# Altium integrated library TI Interface Display.IntLib: 133 symbols (part 10 of 16)
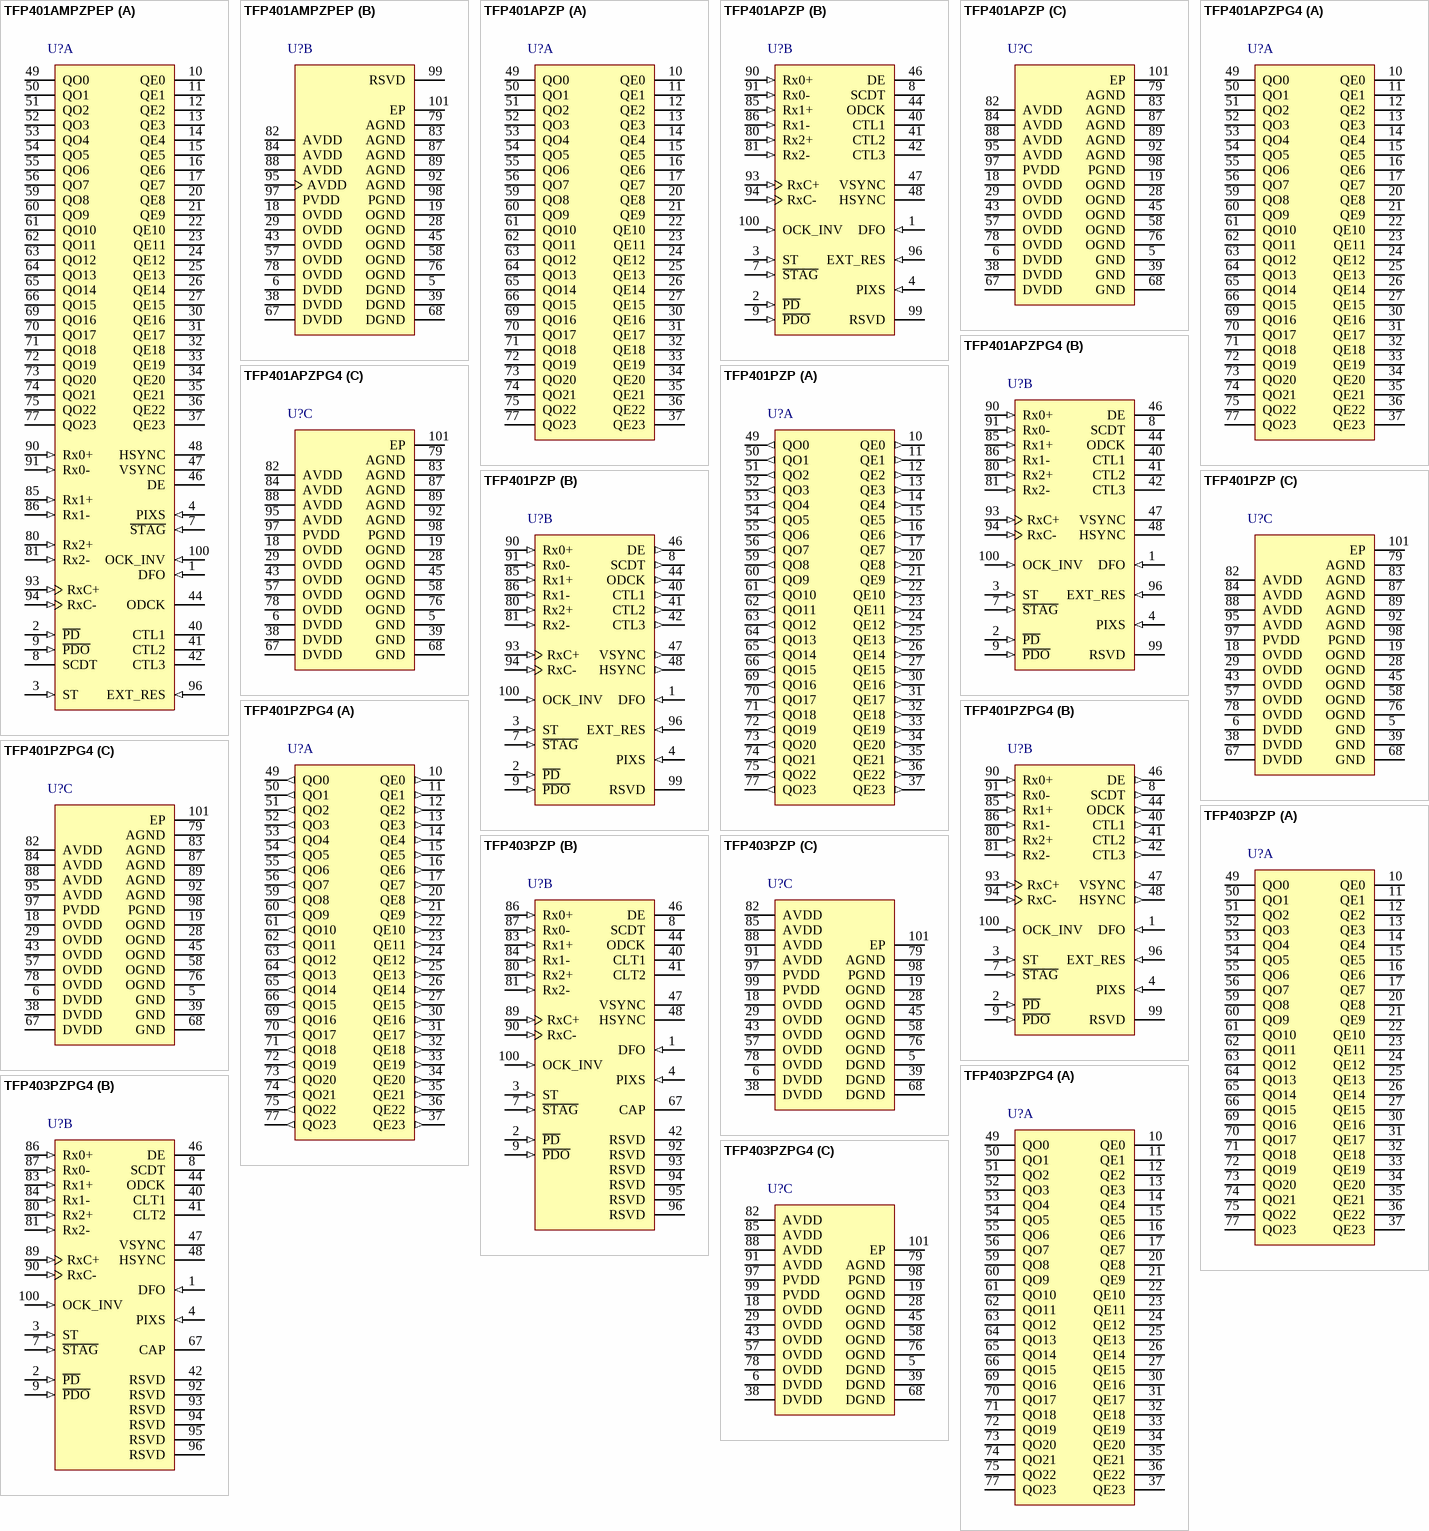
[diagram p23: symbols TFP401AMPZPEP to TFP403PZPG4]

## TFP401PZPG4
designator U?
PanelBus DVI Receiver 165MHz with 3 Data Channels, 3.3 V, 0 to +70 degC, 100-pin HTQFP (PZP), Green (RoHS & no Sb/Br); Manufacturer: Texas Instruments; PartNumber: TFP401PZPG4; Number of Parallel Outputs: 48; PLL Frequency(MHz): 25 to 165; Rating: Catalog; Receiver: TRUE; Serial Data Receiver Channels: 3; SubFamily: PanelBus (DVI); Supply Voltage(s)(V): 3.3; DatasheetVersion: SLDS120D; PackageVersion: revC, Sep-2011; PackageReference: PZP100-4700X4700TP; PackageDescription: 100-Pin Plastic Quad Flat Pack PowerPAD; Eco-Plan: Green (RoHS & no Sb/Br); Mounting Technology: Surface Mount; Code_JEDEC: MS-026; ComponentLink1Description: Datasheet; ComponentLink1URL: http://www.ti.com/general/docs/lit/getliterature.tsp?genericPartNumber=TFP401&fileType=pdf; ComponentLink2Description: URL Link1; ComponentLink2URL: SamplesURL:http://www.ti.com/product/tfp401#samples
footprint PZP100-4700X4700TP_N (Thin QFP, 100-Leads, Body 14x14mm, Pitch 0.5mm, Thermal Pad 5.2x5.2mm, IPC Medium Density)
footprint PZP100-4700X4700TP_L (Thin QFP, 100-Leads, Body 14x14mm, Pitch 0.5mm, Thermal Pad 5.2x5.2mm, IPC High Density)
footprint PZP100-4700X4700TP_M (Thin QFP, 100-Leads, Body 14x14mm, Pitch 0.5mm, Thermal Pad 5.2x5.2mm, IPC Low Density)
part A pins: 10 QE0 (out) "Even blue-pixel output - Output for even and odd blue pixels when in 1-pixel/clock mode.Output for even-only blue pixel when in 2-pixel per clock mode. Output data is synchronized to the output data clock, ODCK.LSB: QE0/pin (See Datasheet)", 11 QE1 (out) "Even blue-pixel output - Output for even and odd blue pixels when in 1-pixel/clock mode.Output for even-only blue pixel when in 2-pixel per clock mode. Output data is synchronized to the output data clock, ODCK.LSB: QE0/pin (See Datasheet)", 12 QE2 (out) "Even blue-pixel output - Output for even and odd blue pixels when in 1-pixel/clock mode.Output for even-only blue pixel when in 2-pixel per clock mode. Output data is synchronized to the output data clock, ODCK.LSB: QE0/pin (See Datasheet)", 13 QE3 (out) "Even blue-pixel output - Output for even and odd blue pixels when in 1-pixel/clock mode.Output for even-only blue pixel when in 2-pixel per clock mode. Output data is synchronized to the output data clock, ODCK.LSB: QE0/pin (See Datasheet)", 14 QE4 (out) "Even blue-pixel output - Output for even and odd blue pixels when in 1-pixel/clock mode.Output for even-only blue pixel when in 2-pixel per clock mode. Output data is synchronized to the output data clock, ODCK.LSB: QE0/pin (See Datasheet)", 15 QE5 (out) "Even blue-pixel output - Output for even and odd blue pixels when in 1-pixel/clock mode.Output for even-only blue pixel when in 2-pixel per clock mode. Output data is synchronized to the output data clock, ODCK.LSB: QE0/pin (See Datasheet)", 16 QE6 (out) "Even blue-pixel output - Output for even and odd blue pixels when in 1-pixel/clock mode.Output for even-only blue pixel when in 2-pixel per clock mode. Output data is synchronized to the output data clock, ODCK.LSB: QE0/pin (See Datasheet)", 17 QE7 (out) "Even blue-pixel output - Output for even and odd blue pixels when in 1-pixel/clock mode.Output for even-only blue pixel when in 2-pixel per clock mode. Output data is synchronized to the output data clock, ODCK.LSB: QE0/pin (See Datasheet)", 20 QE8 (out) "Even green-pixel output - Output for even and odd green pixels when in 1-pixel/clock mode.Output for even-only green pixel when in 2-pixel/clock mode. Output data is synchronized to the output data clock, ODCK.LSB: QE8/pin (See Datasheet)", 21 QE9 (out) "Even green-pixel output - Output for even and odd green pixels when in 1-pixel/clock mode.Output for even-only green pixel when in 2-pixel/clock mode. Output data is synchronized to the output data clock, ODCK.LSB: QE8/pin (See Datasheet)", 22 QE10 (out) "Even green-pixel output - Output for even and odd green pixels when in 1-pixel/clock mode.Output for even-only green pixel when in 2-pixel/clock mode. Output data is synchronized to the output data clock, ODCK.LSB: QE8/pin (See Datasheet)", 23 QE11 (out) "Even green-pixel output - Output for even and odd green pixels when in 1-pixel/clock mode.Output for even-only green pixel when in 2-pixel/clock mode. Output data is synchronized to the output data clock, ODCK.LSB: QE8/pin (See Datasheet)", 24 QE12 (out) "Even green-pixel output - Output for even and odd green pixels when in 1-pixel/clock mode.Output for even-only green pixel when in 2-pixel/clock mode. Output data is synchronized to the output data clock, ODCK.LSB: QE8/pin (See Datasheet)", 25 QE13 (out) "Even green-pixel output - Output for even and odd green pixels when in 1-pixel/clock mode.Output for even-only green pixel when in 2-pixel/clock mode. Output data is synchronized to the output data clock, ODCK.LSB: QE8/pin (See Datasheet)", 26 QE14 (out) "Even green-pixel output - Output for even and odd green pixels when in 1-pixel/clock mode.Output for even-only green pixel when in 2-pixel/clock mode. Output data is synchronized to the output data clock, ODCK.LSB: QE8/pin (See Datasheet)", 27 QE15 (out) "Even green-pixel output - Output for even and odd green pixels when in 1-pixel/clock mode.Output for even-only green pixel when in 2-pixel/clock mode. Output data is synchronized to the output data clock, ODCK.LSB: QE8/pin (See Datasheet)", 30 QE16 (out) "Even red-pixel output - Output for even and odd red pixels when in 1-pixel/clock mode.Output for even-only red pixel when in 2-pixel/clock mode. Output data is synchronized to the output data clock, ODCK.LSB: QE16/pin 30 (See Datasheet)", 31 QE17 (out) "Even red-pixel output - Output for even and odd red pixels when in 1-pixel/clock mode.Output for even-only red pixel when in 2-pixel/clock mode. Output data is synchronized to the output data clock, ODCK.LSB: QE16/pin 30 (See Datasheet)", 32 QE18 (out) "Even red-pixel output - Output for even and odd red pixels when in 1-pixel/clock mode.Output for even-only red pixel when in 2-pixel/clock mode. Output data is synchronized to the output data clock, ODCK.LSB: QE16/pin 30 (See Datasheet)", 33 QE19 (out) "Even red-pixel output - Output for even and odd red pixels when in 1-pixel/clock mode.Output for even-only red pixel when in 2-pixel/clock mode. Output data is synchronized to the output data clock, ODCK.LSB: QE16/pin 30 (See Datasheet)", 34 QE20 (out) "Even red-pixel output - Output for even and odd red pixels when in 1-pixel/clock mode.Output for even-only red pixel when in 2-pixel/clock mode. Output data is synchronized to the output data clock, ODCK.LSB: QE16/pin 30 (See Datasheet)", 35 QE21 (out) "Even red-pixel output - Output for even and odd red pixels when in 1-pixel/clock mode.Output for even-only red pixel when in 2-pixel/clock mode. Output data is synchronized to the output data clock, ODCK.LSB: QE16/pin 30 (See Datasheet)", 36 QE22 (out) "Even red-pixel output - Output for even and odd red pixels when in 1-pixel/clock mode.Output for even-only red pixel when in 2-pixel/clock mode. Output data is synchronized to the output data clock, ODCK.LSB: QE16/pin 30 (See Datasheet)", 37 QE23 (out) "Even red-pixel output - Output for even and odd red pixels when in 1-pixel/clock mode.Output for even-only red pixel when in 2-pixel/clock mode. Output data is synchronized to the output data clock, ODCK.LSB: QE16/pin 30 (See Datasheet)", 49 QO0 (out) "Odd blue-pixel output - Output for odd-only blue pixel when in 2-pixel/clock mode. Not used,and held low, when in 1-pixel/clock mode. Output data is synchronized to the output data clock, ODCK.LSB: QO0/pin 49 MSB: QO7/pin 56", 50 QO1 (out) "Odd blue-pixel output - Output for odd-only blue pixel when in 2-pixel/clock mode. Not used,and held low, when in 1-pixel/clock mode. Output data is synchronized to the output data clock, ODCK.LSB: QO0/pin 49 MSB: QO7/pin 56", 51 QO2 (out) "Odd blue-pixel output - Output for odd-only blue pixel when in 2-pixel/clock mode. Not used,and held low, when in 1-pixel/clock mode. Output data is synchronized to the output data clock, ODCK.LSB: QO0/pin 49 MSB: QO7/pin 56", 52 QO3 (out) "Odd blue-pixel output - Output for odd-only blue pixel when in 2-pixel/clock mode. Not used,and held low, when in 1-pixel/clock mode. Output data is synchronized to the output data clock, ODCK.LSB: QO0/pin 49 MSB: QO7/pin 56", 53 QO4 (out) "Odd blue-pixel output - Output for odd-only blue pixel when in 2-pixel/clock mode. Not used,and held low, when in 1-pixel/clock mode. Output data is synchronized to the output data clock, ODCK.LSB: QO0/pin 49 MSB: QO7/pin 56", 54 QO5 (out) "Odd blue-pixel output - Output for odd-only blue pixel when in 2-pixel/clock mode. Not used,and held low, when in 1-pixel/clock mode. Output data is synchronized to the output data clock, ODCK.LSB: QO0/pin 49 MSB: QO7/pin 56", 55 QO6 (out) "Odd blue-pixel output - Output for odd-only blue pixel when in 2-pixel/clock mode. Not used,and held low, when in 1-pixel/clock mode. Output data is synchronized to the output data clock, ODCK.LSB: QO0/pin 49 MSB: QO7/pin 56", 56 QO7 (out) "Odd blue-pixel output - Output for odd-only blue pixel when in 2-pixel/clock mode. Not used,and held low, when in 1-pixel/clock mode. Output data is synchronized to the output data clock, ODCK.LSB: QO0/pin 49 MSB: QO7/pin 56", 59 QO8 (out) "Odd green-pixel output - Output for odd-only green pixel when in 2-pixel/clock mode. Not used, and held low, when in 1-pixel/clock mode. Output data is synchronized to the output data clock, ODCK.LSB: QO8/pin 59 MSB: (See Datasheet)", 60 QO9 (out) "Odd green-pixel output - Output for odd-only green pixel when in 2-pixel/clock mode. Not used, and held low, when in 1-pixel/clock mode. Output data is synchronized to the output data clock, ODCK.LSB: QO8/pin 59 MSB: (See Datasheet)", 61 QO10 (out) "Odd green-pixel output - Output for odd-only green pixel when in 2-pixel/clock mode. Not used, and held low, when in 1-pixel/clock mode. Output data is synchronized to the output data clock, ODCK.LSB: QO8/pin 59 MSB: (See Datasheet)", 62 QO11 (out) "Odd green-pixel output - Output for odd-only green pixel when in 2-pixel/clock mode. Not used, and held low, when in 1-pixel/clock mode. Output data is synchronized to the output data clock, ODCK.LSB: QO8/pin 59 MSB: (See Datasheet)", 63 QO12 (out) "Odd green-pixel output - Output for odd-only green pixel when in 2-pixel/clock mode. Not used, and held low, when in 1-pixel/clock mode. Output data is synchronized to the output data clock, ODCK.LSB: QO8/pin 59 MSB: (See Datasheet)", 64 QO13 (out) "Odd green-pixel output - Output for odd-only green pixel when in 2-pixel/clock mode. Not used, and held low, when in 1-pixel/clock mode. Output data is synchronized to the output data clock, ODCK.LSB: QO8/pin 59 MSB: (See Datasheet)", 65 QO14 (out) "Odd green-pixel output - Output for odd-only green pixel when in 2-pixel/clock mode. Not used, and held low, when in 1-pixel/clock mode. Output data is synchronized to the output data clock, ODCK.LSB: QO8/pin 59 MSB: (See Datasheet)", 66 QO15 (out) "Odd green-pixel output - Output for odd-only green pixel when in 2-pixel/clock mode. Not used, and held low, when in 1-pixel/clock mode. Output data is synchronized to the output data clock, ODCK.LSB: QO8/pin 59 MSB: (See Datasheet)", 69 QO16 (out) "Odd red-pixel output - Output for odd-only red pixel when in 2-pixel/clock mode. Not used,and held low, when in 1-pixel/clock mode. Output data is synchronized to the output data clock, ODCK.LSB: QO16/pin 69 MSB: QO23/pin 77", 70 QO17 (out) "Odd red-pixel output - Output for odd-only red pixel when in 2-pixel/clock mode. Not used,and held low, when in 1-pixel/clock mode. Output data is synchronized to the output data clock, ODCK.LSB: QO16/pin 69 MSB: QO23/pin 77", 71 QO18 (out) "Odd red-pixel output - Output for odd-only red pixel when in 2-pixel/clock mode. Not used,and held low, when in 1-pixel/clock mode. Output data is synchronized to the output data clock, ODCK.LSB: QO16/pin 69 MSB: QO23/pin 77", 72 QO19 (out) "Odd red-pixel output - Output for odd-only red pixel when in 2-pixel/clock mode. Not used,and held low, when in 1-pixel/clock mode. Output data is synchronized to the output data clock, ODCK.LSB: QO16/pin 69 MSB: QO23/pin 77", 73 QO20 (out) "Odd red-pixel output - Output for odd-only red pixel when in 2-pixel/clock mode. Not used,and held low, when in 1-pixel/clock mode. Output data is synchronized to the output data clock, ODCK.LSB: QO16/pin 69 MSB: QO23/pin 77", 74 QO21 (out) "Odd red-pixel output - Output for odd-only red pixel when in 2-pixel/clock mode. Not used,and held low, when in 1-pixel/clock mode. Output data is synchronized to the output data clock, ODCK.LSB: QO16/pin 69 MSB: QO23/pin 77", 75 QO22 (out) "Odd red-pixel output - Output for odd-only red pixel when in 2-pixel/clock mode. Not used,and held low, when in 1-pixel/clock mode. Output data is synchronized to the output data clock, ODCK.LSB: QO16/pin 69 MSB: QO23/pin 77", 77 QO23 (out) "Odd red-pixel output - Output for odd-only red pixel when in 2-pixel/clock mode. Not used,and held low, when in 1-pixel/clock mode. Output data is synchronized to the output data clock, ODCK.LSB: QO16/pin 69 MSB: QO23/pin 77"
part B pins: 1 DFO (in) "Output clock data format - Controls the output clock (ODCK) format for either TFT or DSTN panel support. For TFT support, the ODCK clock runs continuously. For DSTN support, ODCK only clocks when DE is high; otherwise, ODCK (See Datasheet)", 2 ~{PD} (in) "Power down - An active-low signal that controls the TFP401/401A power-down state. During power down, all output buffers are switched to a high-impedance state. [see datasheet]", 3 ST (in) "Output drive strength select - Selects output drive strength for high- or low-current drive.[see datasheet]", 4 PIXS (in) "Pixel select - Selects between one- and two-pixels-per-clock output modes.During the 2-pixel/clock mode, both even pixels, QE[23:0], and odd pixels, QO[23:0], are output in tandem on a given clock cycle.[see datasheet]", 7 ~{STAG} (in) "Staggered pixel select - An active-low signal used in the 2-pixel/clock pixel mode (PIXS = high). Time-staggers the even and odd pixel outputs to reduce ground bounce. Normal operation outputs the odd and even pixels (See Datasheet)", 8 SCDT (out) "Sync detect - Output to signal when the link is active or inactive. The link is considered to be active when DE is actively switching. [see datasheet]", 9 ~{PDO} (in) "Output drive power down - An active-low signal that controls the power-down state of the output drivers.[see datasheet]", 40 CTL1 (out) "General-purpose control signals - Used for user-defined control. CTL1 is not powered down via P\D\O\", 41 CTL2 (out) "General-purpose control signals - Used for user-defined control. CTL1 is not powered down via P\D\O\", 42 CTL3 (out) "General-purpose control signals - Used for user-defined control. CTL1 is not powered down via P\D\O\", 44 ODCK (out) "Output data clock-Pixel clock.All pixel outputs QE[23:0] and QO[23:0] (if in 2-pixel/clock mode),along with DE,HSYNC,VSYNC and CTL[3:1],are synchronized to this clock.", 46 DE (out) "Output data enable - Used to indicate time of active video display versus non-active display or blank time. During blank, only HSYNC, VSYNC, and CTL[3:1] are transmitted. During times of active display, or non-blank, only (See Datasheet)", 47 VSYNC (out) "Vertical sync output", 48 HSYNC (out) "Horizontal sync output", 80 Rx2+ (in) "Channel-2 positive receiver input - Positive side of channel-2 TMDS low-voltage signal differential input pair Channel-2 receives red-pixel data in active display and CTL2, CTL3 control signals in blank.", 81 Rx2- (in) "Channel-2 negative receiver input - Negative side of channel-2 TMDS low-voltage signal differential input pair", 85 Rx1+ (in) "Channel-1 positive receiver input - Positive side of channel-1 TMDS low-voltage signal differential input pair Channel-1 receives green-pixel data in active display and CTL1 control signals in blank.", 86 Rx1- (in) "Channel-1 negative receiver input - Negative side of channel-1 TMDS low-voltage signal differential input pair", 90 Rx0+ (in) "Channel-0 positive receiver input - Positive side of channel-0. TMDS low-voltage signal differential input pair.Channel-0 receives bule pixel data in active display and HSYNC, VSYNC control signals in blank.", 91 Rx0- (in) "Channel-0 negative receiver input - Negative side of channel-0 TMDS low-voltage signal differential input pair", 93 RxC+ (in) "Clock positive receiver input - Positive side of reference clock. TMDS low-voltage signal differential input pair.", 94 RxC- (in) "Clock negative receiver input - Negative side of reference clock. TMDS low-voltage signal differential input pair.", 96 EXT_RES (in) "Internal impedance matching -The TFP401/401A is internally optimized for impedance matching at 50ohm. An external resistor tied to this pin has no effect on device performance.", 99 RSVD "Reserved. Must be tied high for normal operation", 100 OCK_INV (in) "ODCK polarity - Selects ODCK edge on which pixel data (QE[23:0] and QO[23:0]) and control signals (HSYNC, VSYNC, DE, CTL[3:1]) are latched.Normal mode:High: Latches output data on rising ODCK edge Low: Latches output data on (See Datasheet)"
part C pins: 5 GND (power) "Digital ground - Ground reference and current return for digital core", 6 DVDD (power) "Digital VDD - Power supply for digital core. Nominally 3.3 V", 18 OVDD (power) "Output driver VDD - Power supply for output drivers. Nominally 3.3 V", 19 OGND (power) "Output driver ground - Ground reference and current return for digital output drivers", 28 OGND (power) "Output driver ground - Ground reference and current return for digital output drivers", 29 OVDD (power) "Output driver VDD - Power supply for output drivers. Nominally 3.3 V", 38 DVDD (power) "Digital VDD - Power supply for digital core. Nominally 3.3 V", 39 GND (power) "Digital ground - Ground reference and current return for digital core", 43 OVDD (power) "Output driver VDD - Power supply for output drivers. Nominally 3.3 V", 45 OGND (power) "Output driver ground - Ground reference and current return for digital output drivers", 57 OVDD (power) "Output driver VDD - Power supply for output drivers. Nominally 3.3 V", 58 OGND (power) "Output driver ground - Ground reference and current return for digital output drivers", 67 DVDD (power) "Digital VDD - Power supply for digital core. Nominally 3.3 V", 68 GND (power) "Digital ground - Ground reference and current return for digital core", 76 OGND (power) "Output driver ground - Ground reference and current return for digital output drivers", 78 OVDD (power) "Output driver VDD - Power supply for output drivers. Nominally 3.3 V", 79 AGND (power) "Analog ground - Ground reference and current return for analog circuitry", 82 AVDD (power) "Analog VDD - Power supply for analog circuitry. Nominally 3.3 V", 83 AGND (power) "Analog ground - Ground reference and current return for analog circuitry", 84 AVDD (power) "Analog VDD - Power supply for analog circuitry. Nominally 3.3 V", 87 AGND (power) "Analog ground - Ground reference and current return for analog circuitry", 88 AVDD (power) "Analog VDD - Power supply for analog circuitry. Nominally 3.3 V", 89 AGND (power) "Analog ground - Ground reference and current return for analog circuitry", 92 AGND (power) "Analog ground - Ground reference and current return for analog circuitry", 95 AVDD (power) "Analog VDD - Power supply for analog circuitry. Nominally 3.3 V", 97 PVDD (power) "PLL VDD - Power supply for internal PLL", 98 PGND (power) "PLL GND - Ground reference and current return for internal PLL", 101 EP (power) "Exposed  Pad"

## TFP403PZP
designator U?
PanelBus DVI Receiver with 3 Data Channels, 3.3 V, 0 to +70 degC, 100-pin HTQFP (PZP), Green (RoHS & no Sb/Br); Manufacturer: Texas Instruments; PartNumber: TFP403PZP; Number of Parallel Outputs: 48; PLL Frequency(MHz): 25 to 165; Rating: Catalog; Receiver: TRUE; Serial Data Receiver Channels: 3; SubFamily: PanelBus (DVI); Supply Voltage(s)(V): 3.3; DatasheetVersion: SLDS125B; PackageVersion: revC, Sep-2011; PackageReference: PZP100-4700X4700TP; PackageDescription: 100-Pin Plastic Quad Flat Pack PowerPAD; Eco-Plan: Green (RoHS & no Sb/Br); Mounting Technology: Surface Mount; Code_JEDEC: MS-026; ComponentLink1Description: Datasheet; ComponentLink1URL: http://www.ti.com/general/docs/lit/getliterature.tsp?genericPartNumber=TFP403&fileType=pdf; ComponentLink2Description: URL Link1; ComponentLink2URL: SamplesURL:http://www.ti.com/product/tfp403#samples
footprint PZP100-4700X4700TP_N (Thin QFP, 100-Leads, Body 14x14mm, Pitch 0.5mm, Thermal Pad 5.2x5.2mm, IPC Medium Density)
footprint PZP100-4700X4700TP_L (Thin QFP, 100-Leads, Body 14x14mm, Pitch 0.5mm, Thermal Pad 5.2x5.2mm, IPC High Density)
footprint PZP100-4700X4700TP_M (Thin QFP, 100-Leads, Body 14x14mm, Pitch 0.5mm, Thermal Pad 5.2x5.2mm, IPC Low Density)
part A pins: 10 QE0 (hiz) "Even blue pixel output--Output for even and odd blue pixels when in 1-pixel/clock mode. Output for even only blue pixel when in 2-pixel per clock mode. Output data is synchronized to the output data clock, ODCK.[see (See Datasheet)", 11 QE1 (hiz) "Even blue pixel output--Output for even and odd blue pixels when in 1-pixel/clock mode. Output for even only blue pixel when in 2-pixel per clock mode. Output data is synchronized to the output data clock, ODCK.[see (See Datasheet)", 12 QE2 (hiz) "Even blue pixel output--Output for even and odd blue pixels when in 1-pixel/clock mode. Output for even only blue pixel when in 2-pixel per clock mode. Output data is synchronized to the output data clock, ODCK.[see (See Datasheet)", 13 QE3 (hiz) "Even blue pixel output--Output for even and odd blue pixels when in 1-pixel/clock mode. Output for even only blue pixel when in 2-pixel per clock mode. Output data is synchronized to the output data clock, ODCK.[see (See Datasheet)", 14 QE4 (hiz) "Even blue pixel output--Output for even and odd blue pixels when in 1-pixel/clock mode. Output for even only blue pixel when in 2-pixel per clock mode. Output data is synchronized to the output data clock, ODCK.[see (See Datasheet)", 15 QE5 (hiz) "Even blue pixel output--Output for even and odd blue pixels when in 1-pixel/clock mode. Output for even only blue pixel when in 2-pixel per clock mode. Output data is synchronized to the output data clock, ODCK.[see (See Datasheet)", 16 QE6 (hiz) "Even blue pixel output--Output for even and odd blue pixels when in 1-pixel/clock mode. Output for even only blue pixel when in 2-pixel per clock mode. Output data is synchronized to the output data clock, ODCK.[see (See Datasheet)", 17 QE7 (hiz) "Even blue pixel output--Output for even and odd blue pixels when in 1-pixel/clock mode. Output for even only blue pixel when in 2-pixel per clock mode. Output data is synchronized to the output data clock, ODCK.[see (See Datasheet)", 20 QE8 (hiz) "Even green pixel output--Output for even and odd green pixels when in 1-pixel/clock mode. Output for even only green pixel when in 2-pixel/clock mode. Output data is synchronized to the output data clock, ODCK.[see datasheet]", 21 QE9 (hiz) "Even green pixel output--Output for even and odd green pixels when in 1-pixel/clock mode. Output for even only green pixel when in 2-pixel/clock mode. Output data is synchronized to the output data clock, ODCK.[see datasheet]", 22 QE10 (hiz) "Even green pixel output--Output for even and odd green pixels when in 1-pixel/clock mode. Output for even only green pixel when in 2-pixel/clock mode. Output data is synchronized to the output data clock, ODCK.[see datasheet]", 23 QE11 (hiz) "Even green pixel output--Output for even and odd green pixels when in 1-pixel/clock mode. Output for even only green pixel when in 2-pixel/clock mode. Output data is synchronized to the output data clock, ODCK.[see datasheet]", 24 QE12 (hiz) "Even green pixel output--Output for even and odd green pixels when in 1-pixel/clock mode. Output for even only green pixel when in 2-pixel/clock mode. Output data is synchronized to the output data clock, ODCK.[see datasheet]", 25 QE13 (hiz) "Even green pixel output--Output for even and odd green pixels when in 1-pixel/clock mode. Output for even only green pixel when in 2-pixel/clock mode. Output data is synchronized to the output data clock, ODCK.[see datasheet]", 26 QE14 (hiz) "Even green pixel output--Output for even and odd green pixels when in 1-pixel/clock mode. Output for even only green pixel when in 2-pixel/clock mode. Output data is synchronized to the output data clock, ODCK.[see datasheet]", 27 QE15 (hiz) "Even green pixel output--Output for even and odd green pixels when in 1-pixel/clock mode. Output for even only green pixel when in 2-pixel/clock mode. Output data is synchronized to the output data clock, ODCK.[see datasheet]", 30 QE16 (hiz) "Even red pixel output--Output for even and odd red pixels when in 1-pixel/clock mode. Output for even only red pixel when in 2-pixel/clock mode. Output data is synchronized to the output data clock, ODCK.[see datasheet]", 31 QE17 (hiz) "Even red pixel output--Output for even and odd red pixels when in 1-pixel/clock mode. Output for even only red pixel when in 2-pixel/clock mode. Output data is synchronized to the output data clock, ODCK.[see datasheet]", 32 QE18 (hiz) "Even red pixel output--Output for even and odd red pixels when in 1-pixel/clock mode. Output for even only red pixel when in 2-pixel/clock mode. Output data is synchronized to the output data clock, ODCK.[see datasheet]", 33 QE19 (hiz) "Even red pixel output--Output for even and odd red pixels when in 1-pixel/clock mode. Output for even only red pixel when in 2-pixel/clock mode. Output data is synchronized to the output data clock, ODCK.[see datasheet]", 34 QE20 (hiz) "Even red pixel output--Output for even and odd red pixels when in 1-pixel/clock mode. Output for even only red pixel when in 2-pixel/clock mode. Output data is synchronized to the output data clock, ODCK.[see datasheet]", 35 QE21 (hiz) "Even red pixel output--Output for even and odd red pixels when in 1-pixel/clock mode. Output for even only red pixel when in 2-pixel/clock mode. Output data is synchronized to the output data clock, ODCK.[see datasheet]", 36 QE22 (hiz) "Even red pixel output--Output for even and odd red pixels when in 1-pixel/clock mode. Output for even only red pixel when in 2-pixel/clock mode. Output data is synchronized to the output data clock, ODCK.[see datasheet]", 37 QE23 (hiz) "Even red pixel output--Output for even and odd red pixels when in 1-pixel/clock mode. Output for even only red pixel when in 2-pixel/clock mode. Output data is synchronized to the output data clock, ODCK.[see datasheet]", 49 QO0 (hiz) "Odd blue pixel output--Output for odd only blue pixel when in 2-pixel/clock mode. Not used, and held low, when in 1-pixel/clock mode. Output data is synchronized to the output data clock, ODCK.[see datasheet]", 50 QO1 (hiz) "Odd blue pixel output--Output for odd only blue pixel when in 2-pixel/clock mode. Not used, and held low, when in 1-pixel/clock mode. Output data is synchronized to the output data clock, ODCK.[see datasheet]", 51 QO2 (hiz) "Odd blue pixel output--Output for odd only blue pixel when in 2-pixel/clock mode. Not used, and held low, when in 1-pixel/clock mode. Output data is synchronized to the output data clock, ODCK.[see datasheet]", 52 QO3 (hiz) "Odd blue pixel output--Output for odd only blue pixel when in 2-pixel/clock mode. Not used, and held low, when in 1-pixel/clock mode. Output data is synchronized to the output data clock, ODCK.[see datasheet]", 53 QO4 (hiz) "Odd blue pixel output--Output for odd only blue pixel when in 2-pixel/clock mode. Not used, and held low, when in 1-pixel/clock mode. Output data is synchronized to the output data clock, ODCK.[see datasheet]", 54 QO5 (hiz) "Odd blue pixel output--Output for odd only blue pixel when in 2-pixel/clock mode. Not used, and held low, when in 1-pixel/clock mode. Output data is synchronized to the output data clock, ODCK.[see datasheet]", 55 QO6 (hiz) "Odd blue pixel output--Output for odd only blue pixel when in 2-pixel/clock mode. Not used, and held low, when in 1-pixel/clock mode. Output data is synchronized to the output data clock, ODCK.[see datasheet]", 56 QO7 (hiz) "Odd blue pixel output--Output for odd only blue pixel when in 2-pixel/clock mode. Not used, and held low, when in 1-pixel/clock mode. Output data is synchronized to the output data clock, ODCK.[see datasheet]", 59 QO8 (hiz) "Odd green pixel output--Output for odd only green pixel when in 2-pixel/clock mode. Not used, and held low,when in 1-pixel/clock mode. Output data is synchronized to the output data clock, ODCK.[see datasheet]", 60 QO9 (hiz) "Odd green pixel output--Output for odd only green pixel when in 2-pixel/clock mode. Not used, and held low,when in 1-pixel/clock mode. Output data is synchronized to the output data clock, ODCK.[see datasheet]", 61 QO10 (hiz) "Odd green pixel output--Output for odd only green pixel when in 2-pixel/clock mode. Not used, and held low,when in 1-pixel/clock mode. Output data is synchronized to the output data clock, ODCK.[see datasheet]", 62 QO11 (hiz) "Odd green pixel output--Output for odd only green pixel when in 2-pixel/clock mode. Not used, and held low,when in 1-pixel/clock mode. Output data is synchronized to the output data clock, ODCK.[see datasheet]", 63 QO12 (hiz) "Odd green pixel output--Output for odd only green pixel when in 2-pixel/clock mode. Not used, and held low,when in 1-pixel/clock mode. Output data is synchronized to the output data clock, ODCK.[see datasheet]", 64 QO13 (hiz) "Odd green pixel output--Output for odd only green pixel when in 2-pixel/clock mode. Not used, and held low,when in 1-pixel/clock mode. Output data is synchronized to the output data clock, ODCK.[see datasheet]", 65 QO14 (hiz) "Odd green pixel output--Output for odd only green pixel when in 2-pixel/clock mode. Not used, and held low,when in 1-pixel/clock mode. Output data is synchronized to the output data clock, ODCK.[see datasheet]", 66 QO15 (hiz) "Odd green pixel output--Output for odd only green pixel when in 2-pixel/clock mode. Not used, and held low,when in 1-pixel/clock mode. Output data is synchronized to the output data clock, ODCK.[see datasheet]", 69 QO16 (hiz) "Odd red pixel output--Output for odd only red pixel when in 2-pixel/clock mode. Not used, and held low, when in 1-pixel/clock mode. Output data is synchronized to the output data clock, ODCK.[see datasheet]", 70 QO17 (hiz) "Odd red pixel output--Output for odd only red pixel when in 2-pixel/clock mode. Not used, and held low, when in 1-pixel/clock mode. Output data is synchronized to the output data clock, ODCK.[see datasheet]", 71 QO18 (hiz) "Odd red pixel output--Output for odd only red pixel when in 2-pixel/clock mode. Not used, and held low, when in 1-pixel/clock mode. Output data is synchronized to the output data clock, ODCK.[see datasheet]", 72 QO19 (hiz) "Odd red pixel output--Output for odd only red pixel when in 2-pixel/clock mode. Not used, and held low, when in 1-pixel/clock mode. Output data is synchronized to the output data clock, ODCK.[see datasheet]", 73 QO20 (hiz) "Odd red pixel output--Output for odd only red pixel when in 2-pixel/clock mode. Not used, and held low, when in 1-pixel/clock mode. Output data is synchronized to the output data clock, ODCK.[see datasheet]", 74 QO21 (hiz) "Odd red pixel output--Output for odd only red pixel when in 2-pixel/clock mode. Not used, and held low, when in 1-pixel/clock mode. Output data is synchronized to the output data clock, ODCK.[see datasheet]", 75 QO22 (hiz) "Odd red pixel output--Output for odd only red pixel when in 2-pixel/clock mode. Not used, and held low, when in 1-pixel/clock mode. Output data is synchronized to the output data clock, ODCK.[see datasheet]", 77 QO23 (hiz) "Odd red pixel output--Output for odd only red pixel when in 2-pixel/clock mode. Not used, and held low, when in 1-pixel/clock mode. Output data is synchronized to the output data clock, ODCK.[see datasheet]"
part B pins: 1 DFO (in) "Output clock data format--Controls the output clock (ODCK) format for either TFT or DSTN panel support.", 2 ~{PD} (in) "Power down--An active low signal that controls the TFP403 power-down state.[see datasheet]", 3 ST (in) "Output drive strength select--Selects output drive strength for high or low current drive. (See dc specifications for IOH and IOL vs ST state.)[see datasheet]", 4 PIXS (in) "Pixel select--Selects between one or two pixels per clock output modes.[see datasheet]", 7 ~{STAG} (in) "Staggered pixel select--An active low signal used in the 2-pixel/clock pixel mode (PIXS = high). Time staggers the even and odd pixel outputs to reduce ground bounce.[see datasheet]", 8 SCDT (hiz) "Sync detect--Output to signal when the link is active or inactive. The link is considered to be active when DE is actively switching.[see datasheet]", 9 ~{PDO} (in) "Output drive power down--An active low signal that controls the power-down state of the output drivers.[see datasheet]", 40 CLT1 (hiz) "General-purpose control signals--Used for user defined control. In normal mode CTL1 is not powered down via P\D\O\.", 41 CLT2 (hiz) "General-purpose control signals--Used for user defined control. In normal mode CTL1 is not powered down via P\D\O\.", 42 RSVD "Reserved. Must be tied high for normal operation", 44 ODCK (hiz) "Output data clock--Pixel clock. All pixel outputs QE[23:0] and QO[23:0] (if in 2-pixel/clock mode) along with DE, HSYNC, VSYNC, and CTL[2:1] are synchronized to this clock.", 46 DE (hiz) "Output data enable--Used to indicate time of active video display versus nonactive display or blank time.[see datasheet]", 47 VSYNC (hiz) "Vertical sync output", 48 HSYNC (hiz) "Horizontal sync output", 67 CAP "Bypass capacitor--4.7 uF tantalum and 0.01 uF ceramic connected to ground. This capacitor is optional for the TFP403, but is required for the TFP501.", 80 Rx2+ (in) "Channel-2 positive receiver input--Positive side of channel-2 TMDS low voltage signal differential input pair.Channel-2 receives red pixel data in active display and CTL2 control signals in blank.", 81 Rx2- (in) "Channel-2 negative receiver input", 83 Rx1+ (in) "Channel-1 positive receiver input--Positive side of channel-1 TMDS low voltage signal differential input pair.Channel-1 receives green pixel data in active display and CTL1 control signals in blank.", 84 Rx1- (in) "Channel-1 negative receiver input--Negative side of channel-1 TMDS low voltage signal differential input pair", 86 Rx0+ (in) "Channel-0 positive receiver input--Positive side of channel-0. TMDS low voltage signal differential input pair.Channel-0 receives blue pixel data in active display and HSYNC, VSYNC control signals in blank.", 87 Rx0- (in) "Channel-0 negative receiver input--Negative side of channel-0. TMDS low voltage signal differential input pair.", 89 RxC+ (in) "Clock positive receiver input--Positive side of reference clock. TMDS low voltage signal differential input pair", 90 RxC- (in) "Clock negative receiver input--Negative side of reference clock. TMDS low voltage signal differential input pair", 92 RSVD "Reserved. See TFP501 data sheet for intended future use.", 93 RSVD "Reserved. See TFP501 data sheet for intended future use.", 94 RSVD "Reserved. See TFP501 data sheet for intended future use.", 95 RSVD "Reserved. See TFP501 data sheet for intended future use.", 96 RSVD "Reserved. See TFP501 data sheet for intended future use.", 100 OCK_INV (in) "ODCK polarity"
part C pins: 5 DGND (power) "Digital ground--Ground reference and current return for digital core", 6 DVDD (power) "Digital VDD--Power supply for digital core. Nominally 3.3 V", 18 OVDD (power) "Output driver VDD--Power supply for output drivers. Nominally 3.3 V", 19 OGND (power) "Output driver ground--Ground reference and current return for digital output drivers", 28 OGND (power) "Output driver ground--Ground reference and current return for digital output drivers", 29 OVDD (power) "Output driver VDD--Power supply for output drivers. Nominally 3.3 V", 38 DVDD (power) "Digital VDD--Power supply for digital core. Nominally 3.3 V", 39 DGND (power) "Digital ground--Ground reference and current return for digital core", 43 OVDD (power) "Output driver VDD--Power supply for output drivers. Nominally 3.3 V", 45 OGND (power) "Output driver ground--Ground reference and current return for digital output drivers", 57 OVDD (power) "Output driver VDD--Power supply for output drivers. Nominally 3.3 V", 58 OGND (power) "Output driver ground--Ground reference and current return for digital output drivers", 68 DGND (power) "Digital ground--Ground reference and current return for digital core", 76 OGND (power) "Output driver ground--Ground reference and current return for digital output drivers", 78 OVDD (power) "Output driver VDD--Power supply for output drivers. Nominally 3.3 V", 79 AGND (power) "Analog ground--Ground reference and current return for analog circuitry", 82 AVDD (power) "Analog VDD--Power supply for analog circuitry. Nominally 3.3 V", 85 AVDD (power) "Analog VDD--Power supply for analog circuitry. Nominally 3.3 V", 88 AVDD (power) "Analog VDD--Power supply for analog circuitry. Nominally 3.3 V", 91 AVDD (power) "Analog VDD--Power supply for analog circuitry. Nominally 3.3 V", 97 PVDD (power) "PLL VDD--Power supply for internal PLL. Nominally 3.3 V", 98 PGND (power) "PLL GND--Ground reference and current return for internal PLL", 99 PVDD (power) "PLL VDD--Power supply for internal PLL. Nominally 3.3 V", 101 EP "(HSYNC, VSYNC, DE, CTL1-2 ) are latched"